# EAGLE library part DAC7563SDGSR (library DAC7563SDGSR)
12-Bit, Dual, Low Power, Ultra-low Glitch, Buffered Voltage Output DAC with 2.5V, 4ppm/C Reference Source: Datasheet <http://www.ti.com/lit/gpn/dac7563>
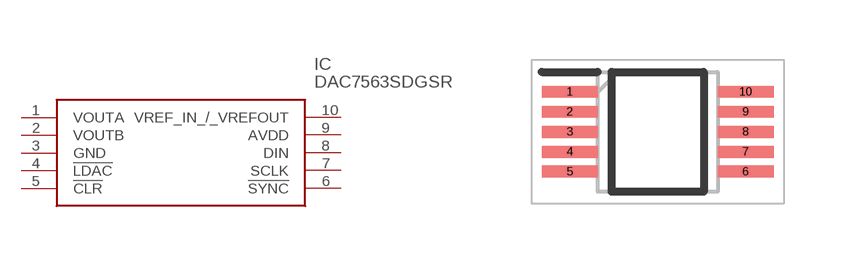
[diagram p0: symbol with the pads of SOP50P490X110-10N; footprint SOP50P490X110-10N]

Designator prefix IC

## DAC7563SDGSR (Description: 12-Bit, Dual, Low Power, Ultra-low Glitch, Buffered Voltage Output DAC with 2.5V, 4ppm/C Reference; Height: 1.1mm; Manufacturer_Name: Texas Instruments; Manufacturer_Part_Number: DAC7563SDGSR; Mouser_Part_Number: 595-DAC7563SDGSR; Mouser_Price-Stock: https://www.mouser.co.uk/ProductDetail/Texas-Instruments/DAC7563SDGSR?qs=QtI0yD1FyOPUuM44rgyQjg%3D%3D)  [SOP50P490X110-10N]
1  VOUTA
2  VOUTB
3  GND
4  !LDAC
5  !CLR
6  !SYNC
7  SCLK
8  DIN
9  AVDD
10  VREF_IN_/_VREFOUT

## Footprint SOP50P490X110-10N (pad centres in mm)
DGS0010A HEIGHT 1.1-1
smd 1.4 x 0.3: 1 -2.2,1; 2 -2.2,0.5; 3 -2.2,0; 4 -2.2,-0.5; 5 -2.2,-1; 6 2.2,-1; 7 2.2,-0.5; 8 2.2,0; 9 2.2,0.5; 10 2.2,1